# Altium integrated library atmel.IntLib: 152 symbols (part 3 of 3)
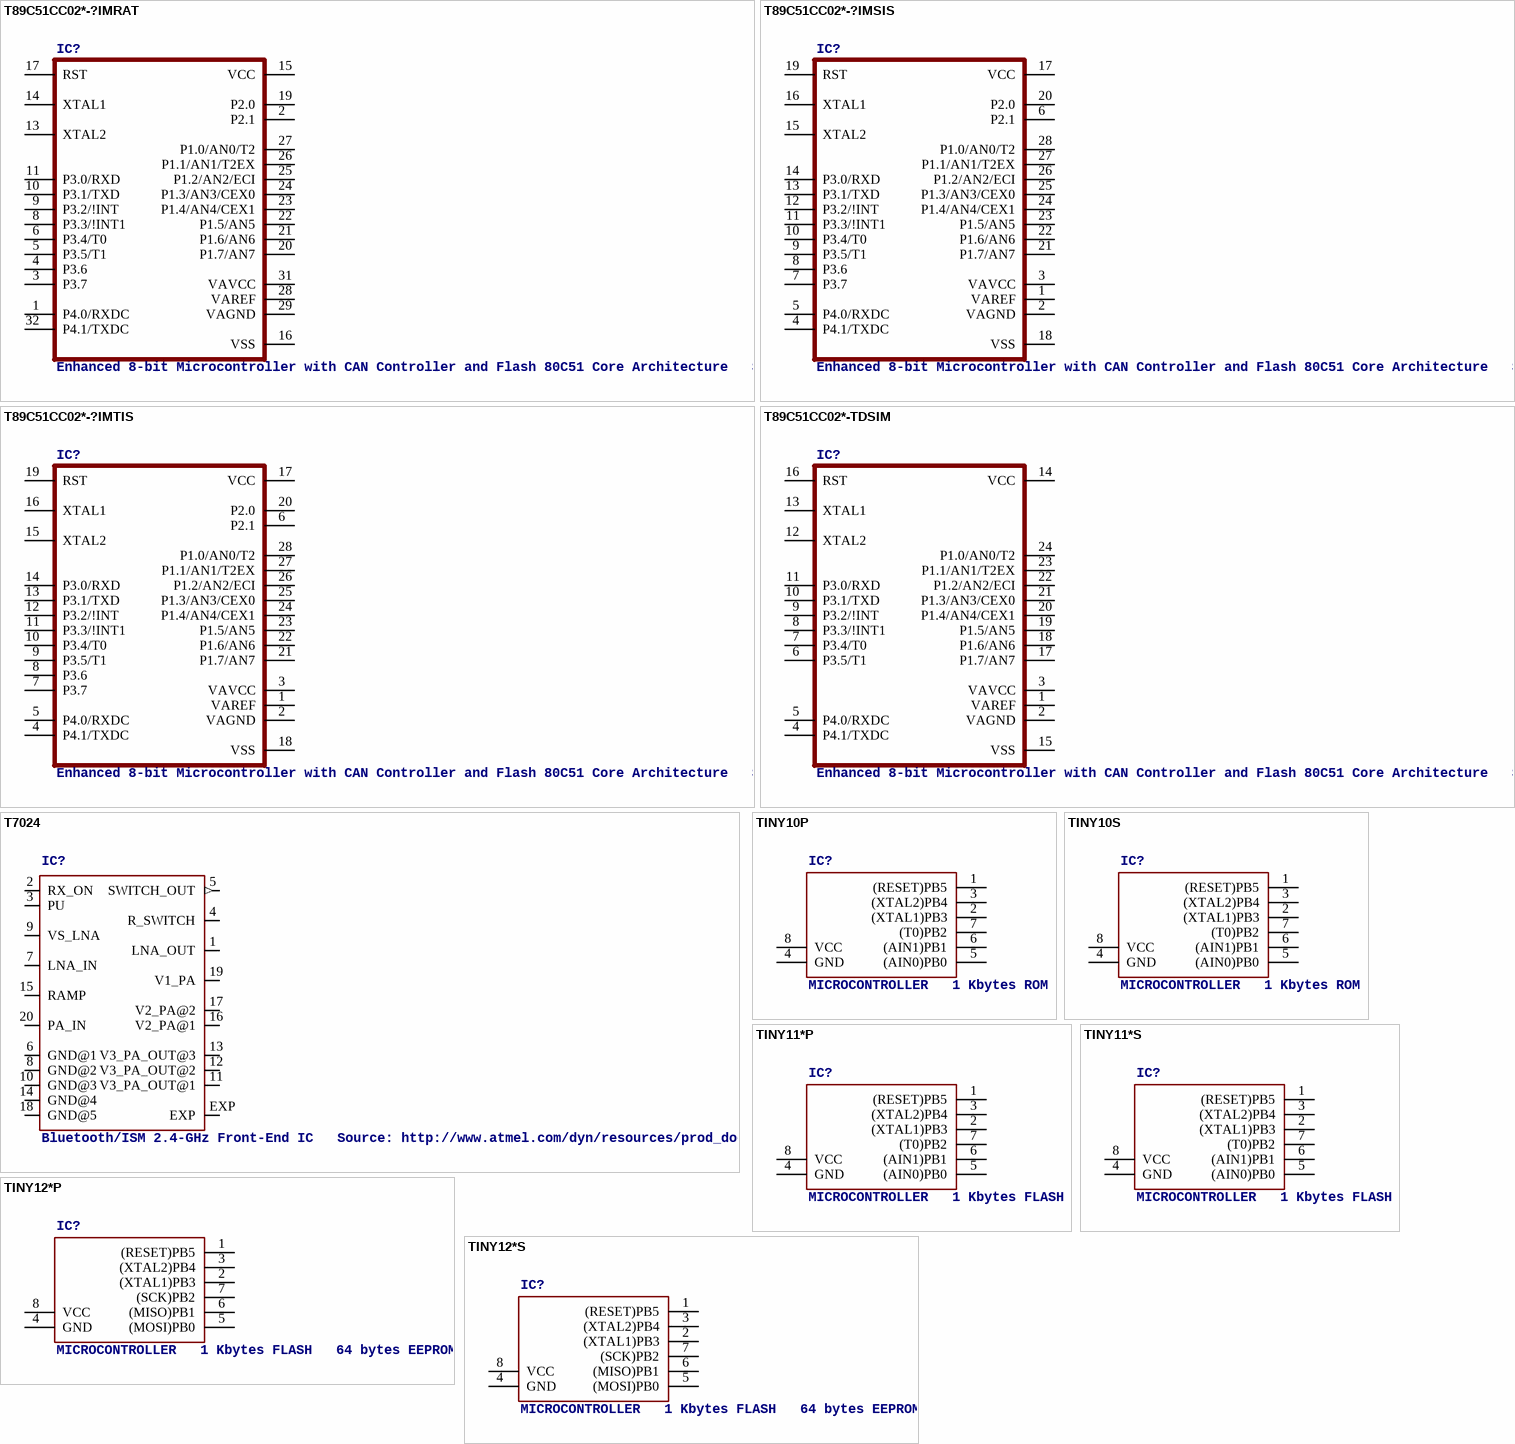
[diagram p33: symbols T89C51CC02*-?IMRAT to TINY12*S]

## T89C51CC02*-?IMRAT
designator IC?, comment Enhanced 8-bit Microcontroller with CAN Controller and Flash 80C51 Core Architecture   Source: http://www.atmel.com/dyn/resources/prod_documents/doc4126.
OC_FARNELL: unknown; OC_NEWARK: unknown
footprint VQFP32
pins: 1 P4.0/RXDC, 2 P2.1, 3 P3.7, 4 P3.6, 5 P3.5/T1, 6 P3.4/T0, 8 P3.3/!INT1, 9 P3.2/!INT, 10 P3.1/TXD, 11 P3.0/RXD, 13 XTAL2, 14 XTAL1, 15 VCC (power), 16 VSS (power), 17 RST, 19 P2.0, 20 P1.7/AN7, 21 P1.6/AN6, 22 P1.5/AN5, 23 P1.4/AN4/CEX1, 24 P1.3/AN3/CEX0, 25 P1.2/AN2/ECI, 26 P1.1/AN1/T2EX, 27 P1.0/AN0/T2, 28 VAREF, 29 VAGND, 31 VAVCC, 32 P4.1/TXDC

## T89C51CC02*-?IMSIS
designator IC?, comment Enhanced 8-bit Microcontroller with CAN Controller and Flash 80C51 Core Architecture   Source: http://www.atmel.com/dyn/resources/prod_documents/doc4126.
MPN: DIL40/PLCC28ZIFAWM-1; OC_FARNELL: unknown; OC_NEWARK: 89M9105
footprint PLCC28
pins: 1 VAREF, 2 VAGND, 3 VAVCC, 4 P4.1/TXDC, 5 P4.0/RXDC, 6 P2.1, 7 P3.7, 8 P3.6, 9 P3.5/T1, 10 P3.4/T0, 11 P3.3/!INT1, 12 P3.2/!INT, 13 P3.1/TXD, 14 P3.0/RXD, 15 XTAL2, 16 XTAL1, 17 VCC (power), 18 VSS (power), 19 RST, 20 P2.0, 21 P1.7/AN7, 22 P1.6/AN6, 23 P1.5/AN5, 24 P1.4/AN4/CEX1, 25 P1.3/AN3/CEX0, 26 P1.2/AN2/ECI, 27 P1.1/AN1/T2EX, 28 P1.0/AN0/T2

## T89C51CC02*-?IMTIS
designator IC?, comment Enhanced 8-bit Microcontroller with CAN Controller and Flash 80C51 Core Architecture   Source: http://www.atmel.com/dyn/resources/prod_documents/doc4126.
MPN: DIL40/SOIC28ZIFAWM-1; OC_FARNELL: unknown; OC_NEWARK: 89M9134
footprint SO28W
pins: 1 VAREF, 2 VAGND, 3 VAVCC, 4 P4.1/TXDC, 5 P4.0/RXDC, 6 P2.1, 7 P3.7, 8 P3.6, 9 P3.5/T1, 10 P3.4/T0, 11 P3.3/!INT1, 12 P3.2/!INT, 13 P3.1/TXD, 14 P3.0/RXD, 15 XTAL2, 16 XTAL1, 17 VCC (power), 18 VSS (power), 19 RST, 20 P2.0, 21 P1.7/AN7, 22 P1.6/AN6, 23 P1.5/AN5, 24 P1.4/AN4/CEX1, 25 P1.3/AN3/CEX0, 26 P1.2/AN2/ECI, 27 P1.1/AN1/T2EX, 28 P1.0/AN0/T2

## T89C51CC02*-TDSIM
designator IC?, comment Enhanced 8-bit Microcontroller with CAN Controller and Flash 80C51 Core Architecture   Source: http://www.atmel.com/dyn/resources/prod_documents/doc4126.
OC_FARNELL: unknown; OC_NEWARK: unknown
footprint SO24W
pins: 1 VAREF, 2 VAGND, 3 VAVCC, 4 P4.1/TXDC, 5 P4.0/RXDC, 6 P3.5/T1, 7 P3.4/T0, 8 P3.3/!INT1, 9 P3.2/!INT, 10 P3.1/TXD, 11 P3.0/RXD, 12 XTAL2, 13 XTAL1, 14 VCC (power), 15 VSS (power), 16 RST, 17 P1.7/AN7, 18 P1.6/AN6, 19 P1.5/AN5, 20 P1.4/AN4/CEX1, 21 P1.3/AN3/CEX0, 22 P1.2/AN2/ECI, 23 P1.1/AN1/T2EX, 24 P1.0/AN0/T2

## T7024
designator IC?, comment Bluetooth/ISM 2.4-GHz Front-End IC   Source: http://www.atmel.com/dyn/resources/prod_documents/doc4533.pdf
OC_FARNELL: unknown; OC_NEWARK: unknown
footprint MLF20-5X5-TH
pins: 1 LNA_OUT, 2 RX_ON, 3 PU, 4 R_SWITCH, 5 SWITCH_OUT (out), 6 GND@1 (power), 7 LNA_IN, 8 GND@2 (power), 9 VS_LNA, 10 GND@3 (power), 11 V3_PA_OUT@1, 12 V3_PA_OUT@2, 13 V3_PA_OUT@3, 14 GND@4 (power), 15 RAMP, 16 V2_PA@1, 17 V2_PA@2, 18 GND@5 (power), 19 V1_PA, 20 PA_IN, EXP

## TINY10P
designator IC?, comment MICROCONTROLLER   1 Kbytes ROM
OC_FARNELL: unknown; OC_NEWARK: unknown
footprint DIL08
pins: 1 (RESET)PB5, 2 (XTAL1)PB3, 3 (XTAL2)PB4, 4 GND (power), 5 (AIN0)PB0, 6 (AIN1)PB1, 7 (T0)PB2, 8 VCC (power)

## TINY10S
designator IC?, comment MICROCONTROLLER   1 Kbytes ROM
OC_FARNELL: unknown; OC_NEWARK: unknown
footprint SOIC8
pins: 1 (RESET)PB5, 2 (XTAL1)PB3, 3 (XTAL2)PB4, 4 GND (power), 5 (AIN0)PB0, 6 (AIN1)PB1, 7 (T0)PB2, 8 VCC (power)

## TINY11*P
designator IC?, comment MICROCONTROLLER   1 Kbytes FLASH
OC_FARNELL: unknown; OC_NEWARK: unknown
footprint DIL08
pins: 1 (RESET)PB5, 2 (XTAL1)PB3, 3 (XTAL2)PB4, 4 GND (power), 5 (AIN0)PB0, 6 (AIN1)PB1, 7 (T0)PB2, 8 VCC (power)

## TINY11*S
designator IC?, comment MICROCONTROLLER   1 Kbytes FLASH
OC_FARNELL: 3617970; OC_NEWARK: unknown
footprint SOIC8
pins: 1 (RESET)PB5, 2 (XTAL1)PB3, 3 (XTAL2)PB4, 4 GND (power), 5 (AIN0)PB0, 6 (AIN1)PB1, 7 (T0)PB2, 8 VCC (power)

## TINY12*P
designator IC?, comment MICROCONTROLLER   1 Kbytes FLASH   64 bytes EEPROM
OC_FARNELL: unknown; OC_NEWARK: unknown
footprint DIL08
pins: 1 (RESET)PB5, 2 (XTAL1)PB3, 3 (XTAL2)PB4, 4 GND (power), 5 (MOSI)PB0, 6 (MISO)PB1, 7 (SCK)PB2, 8 VCC (power)

## TINY12*S
designator IC?, comment MICROCONTROLLER   1 Kbytes FLASH   64 bytes EEPROM
OC_FARNELL: unknown; OC_NEWARK: unknown
footprint SOIC8
pins: 1 (RESET)PB5, 2 (XTAL1)PB3, 3 (XTAL2)PB4, 4 GND (power), 5 (MOSI)PB0, 6 (MISO)PB1, 7 (SCK)PB2, 8 VCC (power)

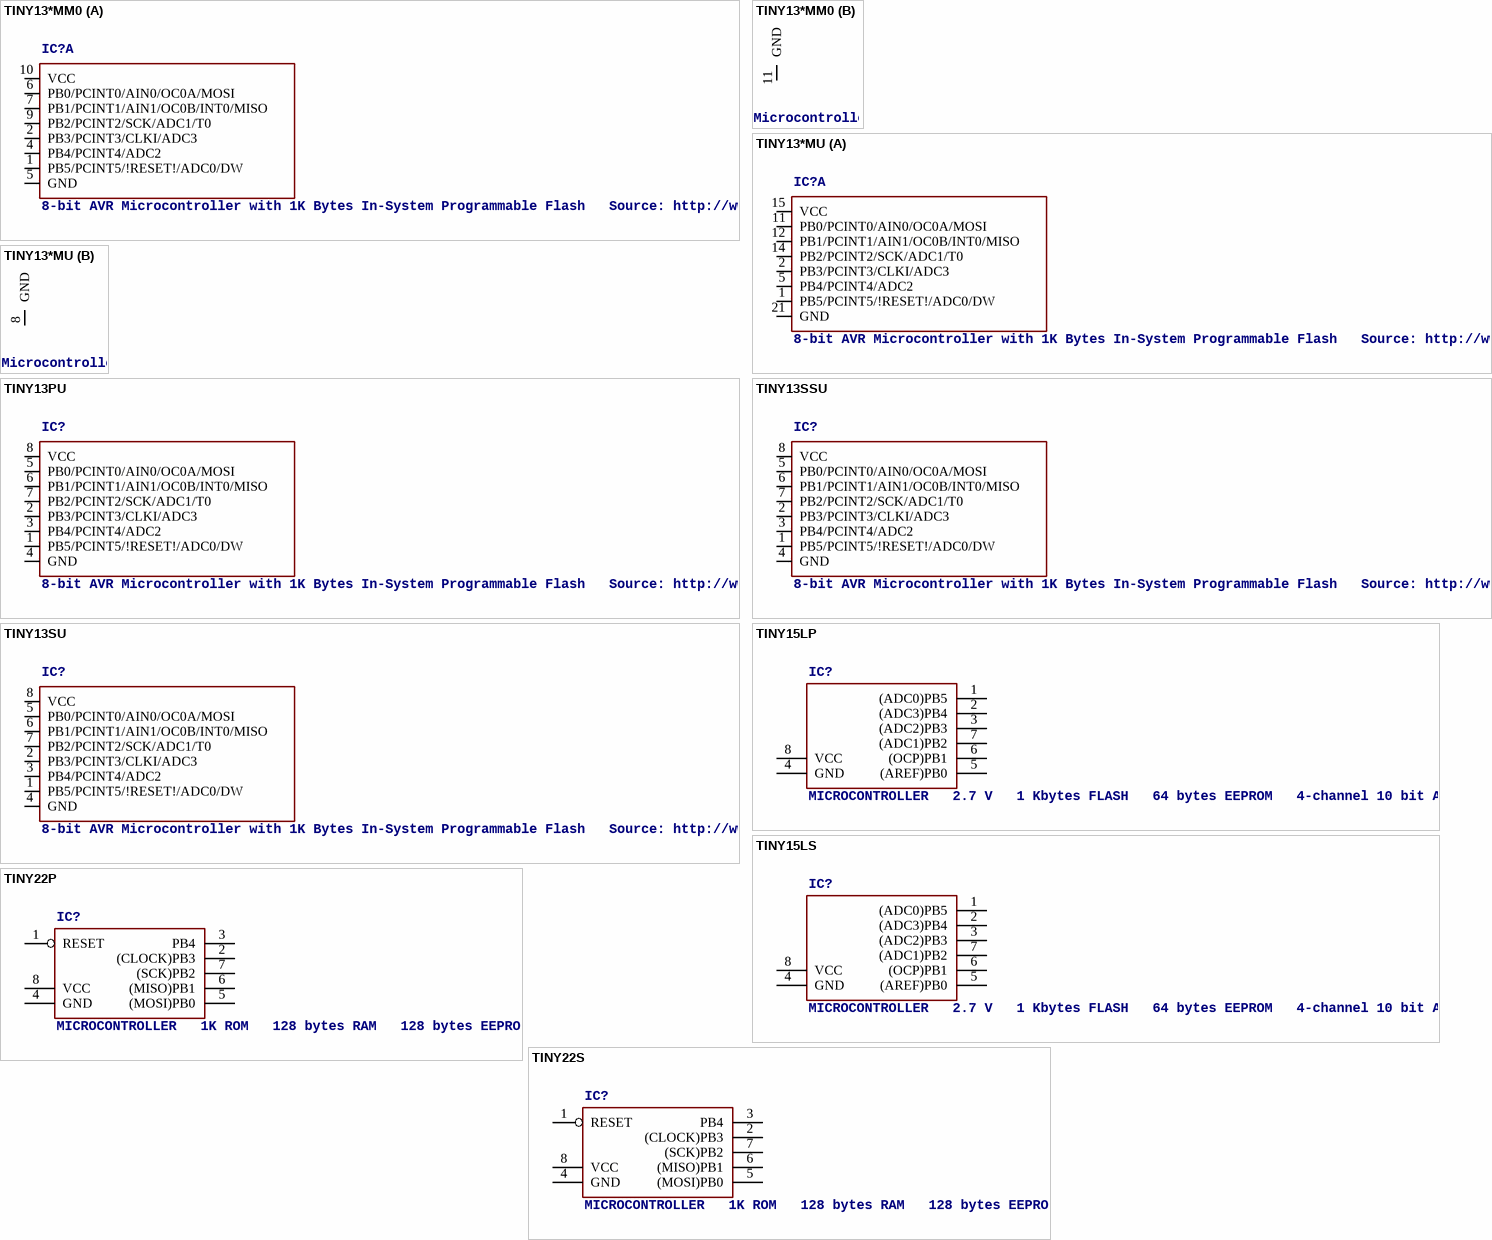
[diagram p29: symbols TINY13*MM0 to TINY22S]

## TINY13*MM0
designator IC?, comment 8-bit AVR Microcontroller with 1K Bytes In-System Programmable Flash   Source: http://www.atmel.com/dyn/resources/prod_documents/2535S.pdf
MPN: ATTINY13A-MMU; OC_FARNELL: 1715516; OC_NEWARK: 15R0298
footprint 10M1
part A pins: 1 PB5/PCINT5/!RESET!/ADC0/DW, 2 PB3/PCINT3/CLKI/ADC3, 4 PB4/PCINT4/ADC2, 5 GND (power), 6 PB0/PCINT0/AIN0/OC0A/MOSI, 7 PB1/PCINT1/AIN1/OC0B/INT0/MISO, 9 PB2/PCINT2/SCK/ADC1/T0, 10 VCC (power)
part B pins: 11 GND (power)

## TINY13*MU
designator IC?, comment 8-bit AVR Microcontroller with 1K Bytes In-System Programmable Flash   Source: http://www.atmel.com/dyn/resources/prod_documents/2535S.pdf
MPN: ATTINY13A-MU; MPN: ATTINY13V-10MU; OC_FARNELL: 1715517; OC_NEWARK: 15R0299; OC_FARNELL: 1455134; OC_NEWARK: 58M3772
footprint 20M1
part A pins: 1 PB5/PCINT5/!RESET!/ADC0/DW, 2 PB3/PCINT3/CLKI/ADC3, 5 PB4/PCINT4/ADC2, 11 PB0/PCINT0/AIN0/OC0A/MOSI, 12 PB1/PCINT1/AIN1/OC0B/INT0/MISO, 14 PB2/PCINT2/SCK/ADC1/T0, 15 VCC (power), 21 GND (power)
part B pins: 8 GND (power)

## TINY13PU
designator IC?, comment 8-bit AVR Microcontroller with 1K Bytes In-System Programmable Flash   Source: http://www.atmel.com/dyn/resources/prod_documents/2535S.pdf
MPN: ATTINY13-20PU; MPN: ATTINY13V-10PU; OC_FARNELL: 9171550; OC_NEWARK: 96K6521; OC_FARNELL: 9171576; OC_NEWARK: 96K6523
footprint DIL08
pins: 1 PB5/PCINT5/!RESET!/ADC0/DW, 2 PB3/PCINT3/CLKI/ADC3, 3 PB4/PCINT4/ADC2, 4 GND (power), 5 PB0/PCINT0/AIN0/OC0A/MOSI, 6 PB1/PCINT1/AIN1/OC0B/INT0/MISO, 7 PB2/PCINT2/SCK/ADC1/T0, 8 VCC (power)

## TINY13SSU
designator IC?, comment 8-bit AVR Microcontroller with 1K Bytes In-System Programmable Flash   Source: http://www.atmel.com/dyn/resources/prod_documents/2535S.pdf
MPN: ATTINY13-20SSU; MPN: ATTINY13V-10SSU; OC_FARNELL: 1455133; OC_NEWARK: 58M3771; OC_FARNELL: 1455135; OC_NEWARK: 58M3773
footprint 8S1
pins: 1 PB5/PCINT5/!RESET!/ADC0/DW, 2 PB3/PCINT3/CLKI/ADC3, 3 PB4/PCINT4/ADC2, 4 GND (power), 5 PB0/PCINT0/AIN0/OC0A/MOSI, 6 PB1/PCINT1/AIN1/OC0B/INT0/MISO, 7 PB2/PCINT2/SCK/ADC1/T0, 8 VCC (power)

## TINY13SU
designator IC?, comment 8-bit AVR Microcontroller with 1K Bytes In-System Programmable Flash   Source: http://www.atmel.com/dyn/resources/prod_documents/2535S.pdf
MPN: ATTINY13-20SU; MPN: ATTINY13V-10SU; OC_FARNELL: 9171568; OC_NEWARK: 96K6522; OC_FARNELL: 9171584; OC_NEWARK: 96K6524
footprint 8S2
pins: 1 PB5/PCINT5/!RESET!/ADC0/DW, 2 PB3/PCINT3/CLKI/ADC3, 3 PB4/PCINT4/ADC2, 4 GND (power), 5 PB0/PCINT0/AIN0/OC0A/MOSI, 6 PB1/PCINT1/AIN1/OC0B/INT0/MISO, 7 PB2/PCINT2/SCK/ADC1/T0, 8 VCC (power)

## TINY15LP
designator IC?, comment MICROCONTROLLER   2.7 V   1 Kbytes FLASH   64 bytes EEPROM   4-channel 10 bit ADC
OC_FARNELL: unknown; OC_NEWARK: unknown
footprint DIL08
pins: 1 (ADC0)PB5, 2 (ADC3)PB4, 3 (ADC2)PB3, 4 GND (power), 5 (AREF)PB0, 6 (OCP)PB1, 7 (ADC1)PB2, 8 VCC (power)

## TINY15LS
designator IC?, comment MICROCONTROLLER   2.7 V   1 Kbytes FLASH   64 bytes EEPROM   4-channel 10 bit ADC
OC_FARNELL: unknown; OC_NEWARK: unknown
footprint SOIC8
pins: 1 (ADC0)PB5, 2 (ADC3)PB4, 3 (ADC2)PB3, 4 GND (power), 5 (AREF)PB0, 6 (OCP)PB1, 7 (ADC1)PB2, 8 VCC (power)

## TINY22P
designator IC?, comment MICROCONTROLLER   1K ROM   128 bytes RAM   128 bytes EEPROM
OC_FARNELL: unknown; OC_NEWARK: unknown
footprint DIL08
pins: 1 RESET, 2 (CLOCK)PB3, 3 PB4, 4 GND (power), 5 (MOSI)PB0, 6 (MISO)PB1, 7 (SCK)PB2, 8 VCC (power)

## TINY22S
designator IC?, comment MICROCONTROLLER   1K ROM   128 bytes RAM   128 bytes EEPROM
OC_FARNELL: unknown; OC_NEWARK: unknown
footprint SOIC8
pins: 1 RESET, 2 (CLOCK)PB3, 3 PB4, 4 GND (power), 5 (MOSI)PB0, 6 (MISO)PB1, 7 (SCK)PB2, 8 VCC (power)

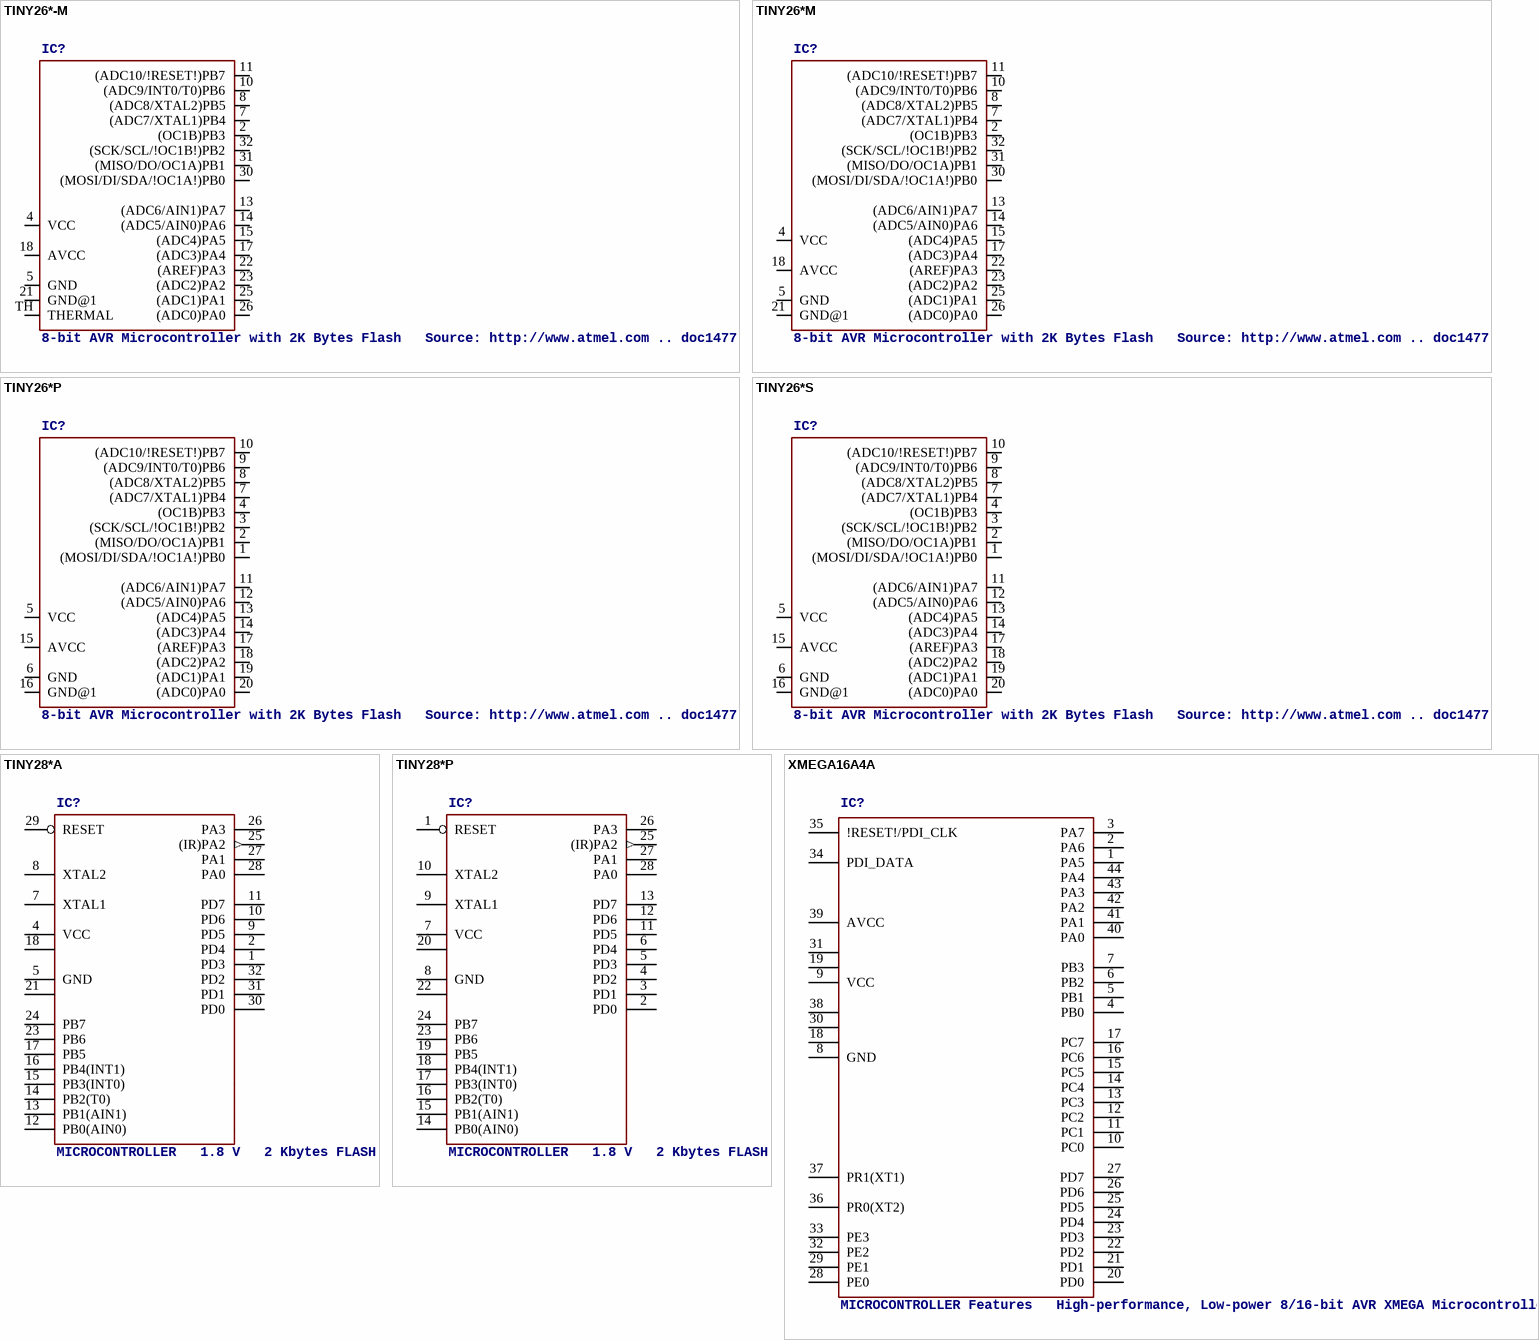
[diagram p30: symbols TINY26*-M to XMEGA16A4A]

## TINY26*-M
designator IC?, comment 8-bit AVR Microcontroller with 2K Bytes Flash   Source: http://www.atmel.com .. doc1477.pdf
OC_FARNELL: unknown; OC_NEWARK: unknown
footprint MLF32-TH
pins: 2 (OC1B)PB3, 4 VCC (power), 5 GND (power), 7 (ADC7/XTAL1)PB4, 8 (ADC8/XTAL2)PB5, 10 (ADC9/INT0/T0)PB6, 11 (ADC10/!RESET!)PB7, 13 (ADC6/AIN1)PA7, 14 (ADC5/AIN0)PA6, 15 (ADC4)PA5, 17 (ADC3)PA4, 18 AVCC (power), 21 GND@1 (power), 22 (AREF)PA3, 23 (ADC2)PA2, 25 (ADC1)PA1, 26 (ADC0)PA0, 30 (MOSI/DI/SDA/!OC1A!)PB0, 31 (MISO/DO/OC1A)PB1, 32 (SCK/SCL/!OC1B!)PB2, TH THERMAL

## TINY26*M
designator IC?, comment 8-bit AVR Microcontroller with 2K Bytes Flash   Source: http://www.atmel.com .. doc1477.pdf
OC_FARNELL: unknown; OC_NEWARK: unknown
footprint MLF32
pins: 2 (OC1B)PB3, 4 VCC (power), 5 GND (power), 7 (ADC7/XTAL1)PB4, 8 (ADC8/XTAL2)PB5, 10 (ADC9/INT0/T0)PB6, 11 (ADC10/!RESET!)PB7, 13 (ADC6/AIN1)PA7, 14 (ADC5/AIN0)PA6, 15 (ADC4)PA5, 17 (ADC3)PA4, 18 AVCC (power), 21 GND@1 (power), 22 (AREF)PA3, 23 (ADC2)PA2, 25 (ADC1)PA1, 26 (ADC0)PA0, 30 (MOSI/DI/SDA/!OC1A!)PB0, 31 (MISO/DO/OC1A)PB1, 32 (SCK/SCL/!OC1B!)PB2

## TINY26*P
designator IC?, comment 8-bit AVR Microcontroller with 2K Bytes Flash   Source: http://www.atmel.com .. doc1477.pdf
MPN: ATTINY261-20PU; MPN: ATTINY26L-8PU; OC_FARNELL: 1455146; OC_NEWARK: 58M3782; OC_FARNELL: 9171657; OC_NEWARK: 01M6920
footprint DIL20
pins: 1 (MOSI/DI/SDA/!OC1A!)PB0, 2 (MISO/DO/OC1A)PB1, 3 (SCK/SCL/!OC1B!)PB2, 4 (OC1B)PB3, 5 VCC (power), 6 GND (power), 7 (ADC7/XTAL1)PB4, 8 (ADC8/XTAL2)PB5, 9 (ADC9/INT0/T0)PB6, 10 (ADC10/!RESET!)PB7, 11 (ADC6/AIN1)PA7, 12 (ADC5/AIN0)PA6, 13 (ADC4)PA5, 14 (ADC3)PA4, 15 AVCC (power), 16 GND@1 (power), 17 (AREF)PA3, 18 (ADC2)PA2, 19 (ADC1)PA1, 20 (ADC0)PA0

## TINY26*S
designator IC?, comment 8-bit AVR Microcontroller with 2K Bytes Flash   Source: http://www.atmel.com .. doc1477.pdf
MPN: ATTINY261-20SU; MPN: ATTINY26L-8SU; OC_FARNELL: 1455147; OC_NEWARK: 58M3783; OC_FARNELL: 9171665; OC_NEWARK: 01M6921
footprint SO20L
pins: 1 (MOSI/DI/SDA/!OC1A!)PB0, 2 (MISO/DO/OC1A)PB1, 3 (SCK/SCL/!OC1B!)PB2, 4 (OC1B)PB3, 5 VCC (power), 6 GND (power), 7 (ADC7/XTAL1)PB4, 8 (ADC8/XTAL2)PB5, 9 (ADC9/INT0/T0)PB6, 10 (ADC10/!RESET!)PB7, 11 (ADC6/AIN1)PA7, 12 (ADC5/AIN0)PA6, 13 (ADC4)PA5, 14 (ADC3)PA4, 15 AVCC (power), 16 GND@1 (power), 17 (AREF)PA3, 18 (ADC2)PA2, 19 (ADC1)PA1, 20 (ADC0)PA0

## TINY28*A
designator IC?, comment MICROCONTROLLER   1.8 V   2 Kbytes FLASH
OC_FARNELL: unknown; OC_NEWARK: unknown
footprint TQFP32-08
pins: 1 PD3, 2 PD4, 3 NC1, 4 VCC (power), 5 GND (power), 6 NC2, 7 XTAL1, 8 XTAL2, 9 PD5, 10 PD6, 11 PD7, 12 PB0(AIN0), 13 PB1(AIN1), 14 PB2(T0), 15 PB3(INT0), 16 PB4(INT1), 17 PB5, 18 VCC1 (power), 19 NC3, 20 NC4, 21 GND1 (power), 22 NC5, 23 PB6, 24 PB7, 25 (IR)PA2 (out), 26 PA3, 27 PA1, 28 PA0, 29 RESET, 30 PD0, 31 PD1, 32 PD2

## TINY28*P
designator IC?, comment MICROCONTROLLER   1.8 V   2 Kbytes FLASH
OC_FARNELL: unknown; OC_NEWARK: unknown
footprint DIL28-3
pins: 1 RESET, 2 PD0, 3 PD1, 4 PD2, 5 PD3, 6 PD4, 7 VCC (power), 8 GND (power), 9 XTAL1, 10 XTAL2, 11 PD5, 12 PD6, 13 PD7, 14 PB0(AIN0), 15 PB1(AIN1), 16 PB2(T0), 17 PB3(INT0), 18 PB4(INT1), 19 PB5, 20 VCC1 (power), 21 NC1, 22 GND1 (power), 23 PB6, 24 PB7, 25 (IR)PA2 (out), 26 PA3, 27 PA1, 28 PA0

## XMEGA16A4A
designator IC?, comment MICROCONTROLLER Features   High-performance, Low-power 8/16-bit AVR XMEGA Microcontroller   Non-Volatile Program and Data Memories - 16 KB - 128 KB of In-System Self-Programmable Flash - 4 KB - 8 KB Boot Code Section with Independent Lock Bits - 1 KB - 2 KB EEPROM - 2 KB - 8 KB Internal SRAM   Peripheral Features - Four-channel DMA Controller with support for external requests - Eight-channel Event System - Five 16-bit Timer/Counters Three Timer/Counters with 4 Output Compare or Input Capture channels   Two Timer/Counters with 2 Output Compare or Input Capture channels   High-Resolution Extensions on all Timer/Counters   Advanced Waveform Extension on one Timer/Counter   - Five USARTs IrDA Extension on one USART   - Two Two-Wire Interfaces with dual address match (I2C and SMBus compatible) - Two SPIs (Serial Peripheral Interfaces) peripherals - AES and DES Crypto Engine - 16-bit Real Time Counter with Separate Oscillator - One Twelve-channel, 12-bit, 2 Msps Analog to Digital Converter - One Two-channel, 12-bit, 1 Msps Digital to Analog Converter - Two Analog Comparators with Window compare function - External Interrupts on all General Purpose I/O pins - Programmable Watchdog Timer with Separate On-chip Ultra Low Power Oscillator   Special Microcontroller Features  - Power-on Reset and Programmable Brown-out Detection - Internal and External Clock Options with PLL - Programmable Multi-level Interrupt Controller - Sleep Modes: Idle, Power-down, Standby, Power-save, Extended Standby - Advanced Programming, Test and Debugging Interfaces PDI (Program and Debug Interface) for programming, test and debugging     I/O and Packages - 34 Programmable I/O Lines - 44 - lead TQFP - 44 - pad VQFN/QFN - 49 - ball VFBGA   Operating Voltage - 1.6 - 3.6V   Speed performance - 0 - 12 MHz @ 1.6 - 3.6V - 0 - 32 MHz @ 2.7 - 3.6V       Drawn by Dipl.-Ing. (FH) Robert SieglerCreated: 27.05.09
OC_FARNELL: unknown; OC_NEWARK: unknown
footprint TQFP44
pins: 1 PA5, 2 PA6, 3 PA7, 4 PB0, 5 PB1, 6 PB2, 7 PB3, 8 GND (power), 9 VCC (power), 10 PC0, 11 PC1, 12 PC2, 13 PC3, 14 PC4, 15 PC5, 16 PC6, 17 PC7, 18 GND1 (power), 19 VCC1 (power), 20 PD0, 21 PD1, 22 PD2, 23 PD3, 24 PD4, 25 PD5, 26 PD6, 27 PD7, 28 PE0, 29 PE1, 30 GND2 (power), 31 VCC2 (power), 32 PE2, 33 PE3, 34 PDI_DATA, 35 !RESET!/PDI_CLK, 36 PR0(XT2), 37 PR1(XT1), 38 GND3 (power), 39 AVCC (power), 40 PA0, 41 PA1, 42 PA2, 43 PA3, 44 PA4

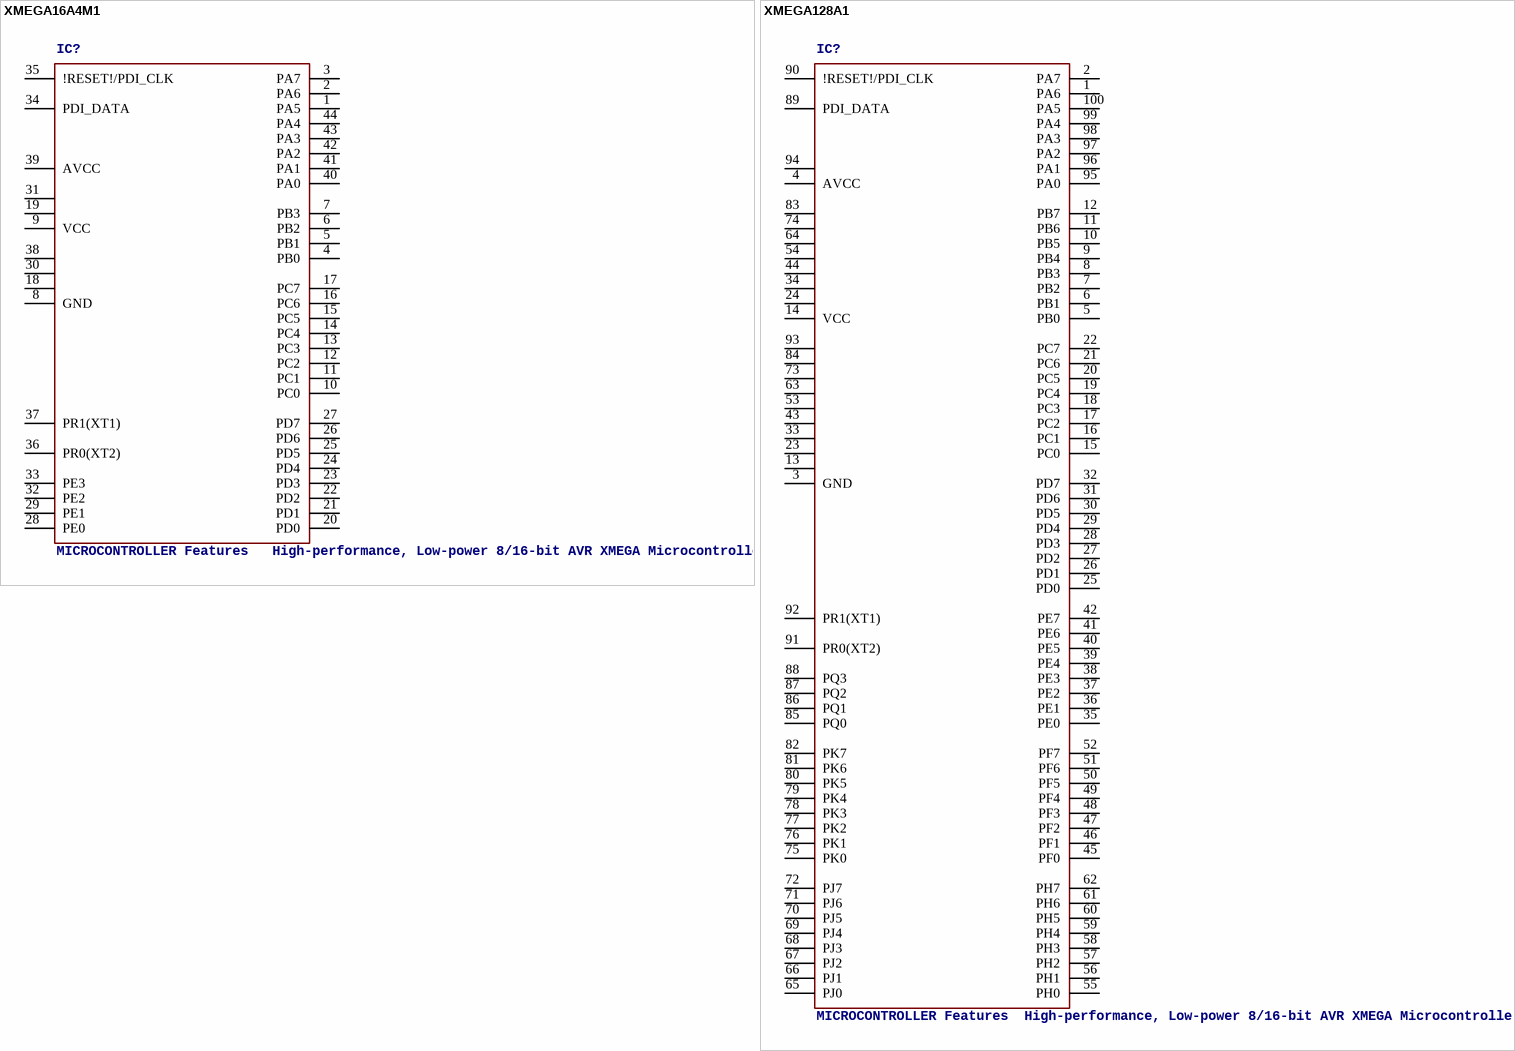
[diagram p31: symbols XMEGA16A4M1 to XMEGA128A1]

## XMEGA16A4M1
designator IC?, comment MICROCONTROLLER Features   High-performance, Low-power 8/16-bit AVR XMEGA Microcontroller   Non-Volatile Program and Data Memories - 16 KB - 128 KB of In-System Self-Programmable Flash - 4 KB - 8 KB Boot Code Section with Independent Lock Bits - 1 KB - 2 KB EEPROM - 2 KB - 8 KB Internal SRAM   Peripheral Features - Four-channel DMA Controller with support for external requests - Eight-channel Event System - Five 16-bit Timer/Counters Three Timer/Counters with 4 Output Compare or Input Capture channels   Two Timer/Counters with 2 Output Compare or Input Capture channels   High-Resolution Extensions on all Timer/Counters   Advanced Waveform Extension on one Timer/Counter   - Five USARTs IrDA Extension on one USART   - Two Two-Wire Interfaces with dual address match (I2C and SMBus compatible) - Two SPIs (Serial Peripheral Interfaces) peripherals - AES and DES Crypto Engine - 16-bit Real Time Counter with Separate Oscillator - One Twelve-channel, 12-bit, 2 Msps Analog to Digital Converter - One Two-channel, 12-bit, 1 Msps Digital to Analog Converter - Two Analog Comparators with Window compare function - External Interrupts on all General Purpose I/O pins - Programmable Watchdog Timer with Separate On-chip Ultra Low Power Oscillator   Special Microcontroller Features  - Power-on Reset and Programmable Brown-out Detection - Internal and External Clock Options with PLL - Programmable Multi-level Interrupt Controller - Sleep Modes: Idle, Power-down, Standby, Power-save, Extended Standby - Advanced Programming, Test and Debugging Interfaces PDI (Program and Debug Interface) for programming, test and debugging     I/O and Packages - 34 Programmable I/O Lines - 44 - lead TQFP - 44 - pad VQFN/QFN - 49 - ball VFBGA   Operating Voltage - 1.6 - 3.6V   Speed performance - 0 - 12 MHz @ 1.6 - 3.6V - 0 - 32 MHz @ 2.7 - 3.6V       Drawn by Dipl.-Ing. (FH) Robert SieglerCreated: 27.05.09
OC_FARNELL: unknown; OC_NEWARK: unknown
footprint MLF44-TH
pins: 1 PA5, 2 PA6, 3 PA7, 4 PB0, 5 PB1, 6 PB2, 7 PB3, 8 GND (power), 9 VCC (power), 10 PC0, 11 PC1, 12 PC2, 13 PC3, 14 PC4, 15 PC5, 16 PC6, 17 PC7, 18 GND1 (power), 19 VCC1 (power), 20 PD0, 21 PD1, 22 PD2, 23 PD3, 24 PD4, 25 PD5, 26 PD6, 27 PD7, 28 PE0, 29 PE1, 30 GND2 (power), 31 VCC2 (power), 32 PE2, 33 PE3, 34 PDI_DATA, 35 !RESET!/PDI_CLK, 36 PR0(XT2), 37 PR1(XT1), 38 GND3 (power), 39 AVCC (power), 40 PA0, 41 PA1, 42 PA2, 43 PA3, 44 PA4

## XMEGA128A1
designator IC?, comment MICROCONTROLLER Features  High-performance, Low-power 8/16-bit AVR XMEGA Microcontroller   Non-Volatile Program and Data Memories - 64K - 384K Bytes of In-System Self-Programmable Flash - 4K - 8K Bytes Boot Section with Independent Lock Bits - 2 KB - 4 KB EEPROM - 4 KB - 32 KB Internal SRAM External Bus Interface for up to 16M bytes SRAM   External Bus Interface for up to 128M bit SDRAM     Peripheral Features - Four-channel DMA Controller with support for external requests - Eight-channel Event System - Eight 16-bit Timer/Counters Four Timer/Counters with 4 Output Compare or Input Capture channels   Four Timer/Counters with 2 Output Compare or Input Capture channels   High-Resolution Extension on all Timer/Counters   Advanced Waveform Extension on two Timer/Counters   - Eight USARTs IrDA modulation/demodulation for one USART   - Four Two-Wire Interfaces with dual address match (I2C and SMBus compatible) - Four SPI (Serial Peripheral Interface) peripherals - AES and DES Crypto Engine - 16-bit Real Time Counter with separate Oscillator - Two Eight-channel, 12-bit, 2 Msps Analog to Digital Converters - Two Two-channel, 12-bit, 1 Msps Digital to Analog Converters - Four Analog Comparators with Window compare function - External Interrupts on all General Purpose I/O pins - Programmable Watchdog Timer with Separate On-chip Ultra Low Power Oscillator   Special Microcontroller Features - Power-on Reset and Programmable Brown-out Detection - Internal and External Clock Options with PLL and Prescaler - Programmable Multi-level Interrupt Controller - Sleep Modes: Idle, Power-down, Standby, Power-save, Extended Standby - Advanced Programming, Test and Debugging Interfaces JTAG (IEEE 1149.1 Compliant) Interface for programming, test and debugging   PDI (Program and Debug Interface) for programming and debugging     I/O and Packages - 78 Programmable I/O Lines - 100 - lead TQFP - 100 - ball CBGA - 100 - ball VFBGA   Operating Voltage - 1.6 - 3.6V   Speed performance - 0 - 12 MHz @ 1.6 - 3.6V - 0 - 32 MHz @ 2.7 - 3.6V       Drawn by Dipl.-Ing. (FH) Robert SieglerCreated: 27.05.09
OC_FARNELL: unknown; OC_NEWARK: unknown
footprint TQFP100
pins: 1 PA6, 2 PA7, 3 GND (power), 4 AVCC (power), 5 PB0, 6 PB1, 7 PB2, 8 PB3, 9 PB4, 10 PB5, 11 PB6, 12 PB7, 13 GND1 (power), 14 VCC (power), 15 PC0, 16 PC1, 17 PC2, 18 PC3, 19 PC4, 20 PC5, 21 PC6, 22 PC7, 23 GND2 (power), 24 VCC1 (power), 25 PD0, 26 PD1, 27 PD2, 28 PD3, 29 PD4, 30 PD5, 31 PD6, 32 PD7, 33 GND3 (power), 34 VCC2 (power), 35 PE0, 36 PE1, 37 PE2, 38 PE3, 39 PE4, 40 PE5, 41 PE6, 42 PE7, 43 GND4 (power), 44 VCC3 (power), 45 PF0, 46 PF1, 47 PF2, 48 PF3, 49 PF4, 50 PF5, 51 PF6, 52 PF7, 53 GND5 (power), 54 VCC4 (power), 55 PH0, 56 PH1, 57 PH2, 58 PH3, 59 PH4, 60 PH5, 61 PH6, 62 PH7, 63 GND6 (power), 64 VCC5 (power), 65 PJ0, 66 PJ1, 67 PJ2, 68 PJ3, 69 PJ4, 70 PJ5, 71 PJ6, 72 PJ7, 73 GND7 (power), 74 VCC6 (power), 75 PK0, 76 PK1, 77 PK2, 78 PK3, 79 PK4, 80 PK5, 81 PK6, 82 PK7, 83 VCC7 (power), 84 GND8 (power), 85 PQ0, 86 PQ1, 87 PQ2, 88 PQ3, 89 PDI_DATA, 90 !RESET!/PDI_CLK, 91 PR0(XT2), 92 PR1(XT1), 93 GND9 (power), 94 AVCC1 (power), 95 PA0, 96 PA1, 97 PA2, 98 PA3, 99 PA4, 100 PA5